# EAGLE library part ARDUINO_UNO_SIZE_MCU_BOARD (library ihpcb-arduino)
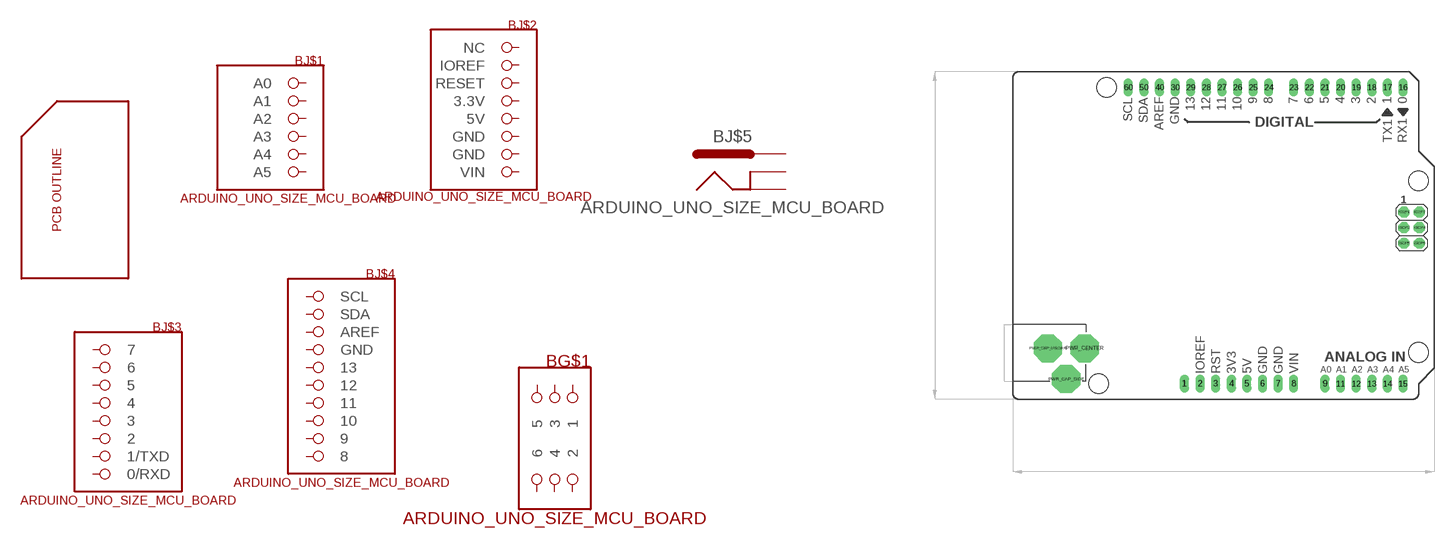
[diagram p0: symbol with the pads of STANDARD; footprint STANDARD]

Designator prefix B; gates B$1=PCB_DIMENTION J$1=6X1_ARDUINO_ANALOG_HEADER J$2=8X1_ARDUINO_POWER_HEADER J$3=8X1_ARDUINO_DIGITAL_HEADER J$4=10X1_ARDUINO_DIGITAL_HEADER J$5=POWER_JACK G$1=3X2_ARDUINO_ISP_HEADER

## ARDUINO_UNO_SIZE_MCU_BOARD (BOARD_NAME: ARDUINO UNO SIZE)  [STANDARD]
1  J$2:NC
2  J$2:IOREF
3  J$2:RESET
4  J$2:3.3V
5  J$2:5V
6  J$2:GND
7  J$2:GND
8  J$2:VIN
9  J$1:A0
11  J$1:A1
12  J$1:A2
13  J$1:A3
14  J$1:A4
15  J$1:A5
16  J$3:0/RXD
17  J$3:1/TXD
18  J$3:2
19  J$3:3
20  J$3:4
21  J$3:5
22  J$3:6
23  J$3:7
24  J$4:8
25  J$4:9
26  J$4:10
27  J$4:11
28  J$4:12
29  J$4:13
30  J$4:GND
40  J$4:AREF
50  J$4:SDA
60  J$4:SCL
ICSP1  G$1:1
ICSP2  G$1:2
ISCP3  G$1:3
ISCP4  G$1:4
ISCP5  G$1:5
ISCP6  G$1:6
PWR_CAP_SIDE  J$5:CAP_SIDE
PWR_CAP_UNDER  J$5:CAP_BOTTOM
PWR_CENTER  J$5:CENTER

## Footprint STANDARD (pad centres in mm)
drill 0.98 long: 1 27.94,2.54; 2 30.48,2.54; 3 33.02,2.54; 4 35.56,2.54; 5 38.1,2.54; 6 40.64,2.54; 7 43.18,2.54; 8 45.72,2.54; 9 50.8,2.54; 11 53.34,2.54; 12 55.88,2.54; 13 58.42,2.54; 14 60.96,2.54; 15 63.5,2.54; 16 63.5,50.8; 17 60.96,50.8; 18 58.42,50.8; 19 55.88,50.8; 20 53.34,50.8; 21 50.8,50.8; 22 48.26,50.8; 23 45.72,50.8; 24 41.656,50.8; 25 39.116,50.8; 26 36.576,50.8; 27 34.036,50.8; 28 31.496,50.8; 29 28.956,50.8; 30 26.416,50.8; 40 23.876,50.8; 50 21.336,50.8; 60 18.796,50.8
drill 0.98 pad 1.778 octagon: ICSP1 63.627,30.48; ICSP2 66.167,30.48; ISCP3 63.627,27.94; ISCP4 66.167,27.94; ISCP5 63.627,25.4; ISCP6 66.167,25.4
drill 2.921 pad 4.572 octagon: PWR_CAP_SIDE 8.687,3.302; PWR_CAP_UNDER 5.69,8.306; PWR_CENTER 11.684,8.306
hole 3.2 at 13.97,2.54
hole 3.2 at 15.24,50.8
hole 3.2 at 66.04,35.56
hole 3.2 at 66.04,7.62